# Altium footprint library 三电平变换器.PCBLIB: 98 footprints (part 4 of 7)
Each footprint in its own frame and in the unit in brackets; x right, y up, seen from the top. Pads: shape width x height; smd on the part's side, far side on the other; paste and mask are expansions set on the pad; w line width, h text height; cw(c..) or ccw(c..) is an arc to the next point about the centre after c.
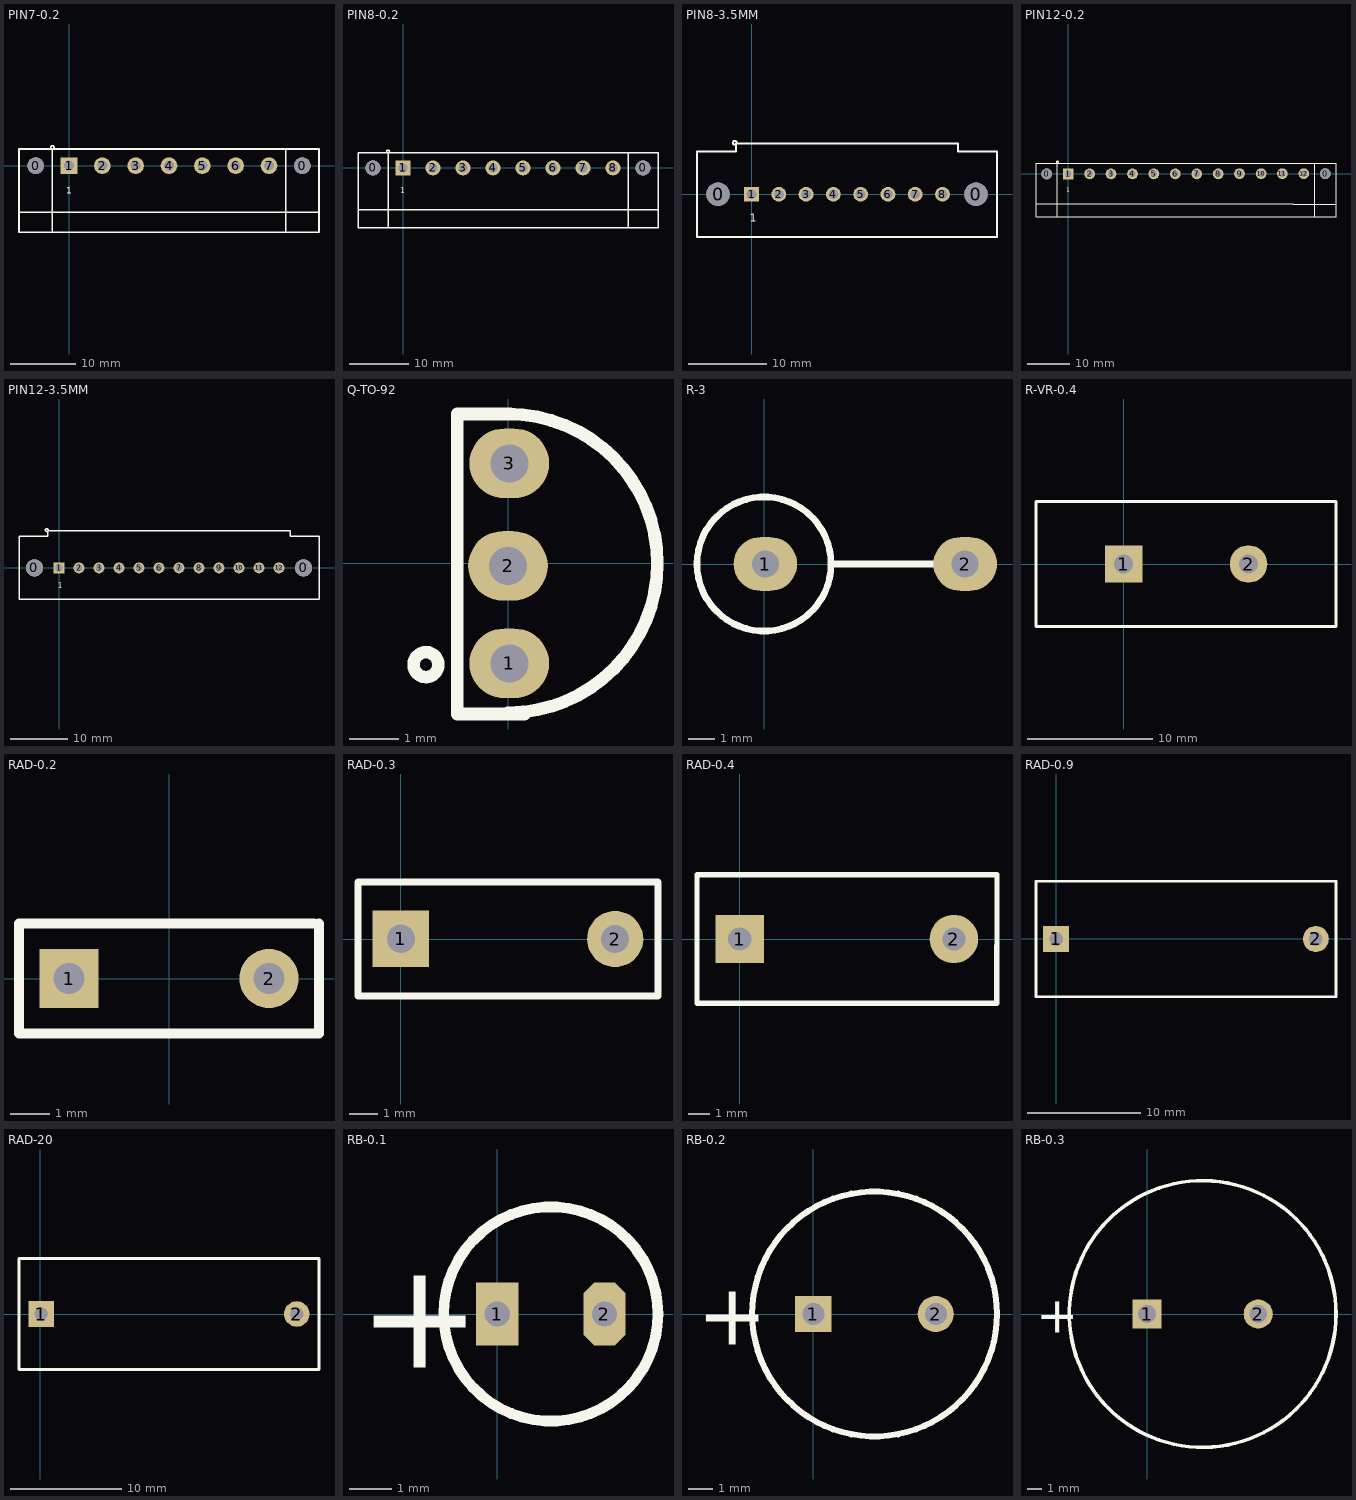
[diagram p3: the footprints below, top view; thin cyan lines are the x and y axes]

## PIN7-0.2 [mil] "7芯插座, 焊盘间距200mil"
pads (9):
  round 100 hole 100: 0(-200,0) 0(1400,0)
  rect 100x100 hole 60: 1(0,0)
  round 100 hole 60: 2(200,0) 3(400,0) 4(600,0) 5(800,0) 6(1000,0) 7(1200,0)
TopOverlay:
  circle w9.84: c-99.84,110 r9.84
  lines w10: -300,-280 1300,-280 1500,-280 ; -100,-400 -100,100 ; 1300,-400 -300,-400 -300,100 1300,100 ; 1300,-400 1300,100 ; 1300,-400 1500,-400 1500,100 1300,100
  text "1" at -17,-170 h40

## PIN8-0.2 [mil] "8芯插座, 焊盘间距200mil"
pads (10):
  round 100 hole 100: 0(-200,0) 0(1600,0)
  rect 100x100 hole 60: 1(0,0)
  round 100 hole 60: 2(200,0) 3(400,0) 4(600,0) 5(800,0) 6(1000,0) 7(1200,0) 8(1400,0)
TopOverlay:
  circle w9.84: c-99.84,110 r9.84
  lines w10: -300,-280 1300,-280 1700,-280 ; -100,-400 -100,100 ; 1500,-400 1500,100 ; -300,-400 1300,-400 1700,-400 1700,100 1300,100 -300,100 -300,-400
  text "1" at -17,-170 h40

## PIN8-3.5MM [mm] "8.芯插座, 焊盘间距3.5mm"
pads (10):
  round 3 hole 3: 0(-4.3,0) 0(28.8,0)
  rect 1.905x1.905 hole 1.27: 1(0,0)
  round 1.905 hole 1.27: 2(3.5,0) 3(7,0) 4(10.5,0) 5(14,0) 6(17.5,0) 7(21,0) 8(24.5,0)
TopOverlay:
  circle w0.25: c-2.155,6.604 r0.25
  lines w0.254: -7,-5.5 31.5,-5.5 31.5,5.5 26.5,5.5 26.5,6.5 -2,6.5 -2,5.5 -7,5.5 -7,-5.5
  text "1" at -0.254,-3.531 h1.02

## PIN12-0.2 [mil] "12芯插座, 焊盘间距200mil"
pads (14):
  round 100 hole 100: 0(-200,0) 0(2399,3)
  rect 100x100 hole 60: 1(0,0)
  round 100 hole 60: 2(200,0) 3(400,0) 4(600,0) 5(800,0) 6(1000,0) 7(1200,0) 8(1400,0) 9(1599,3) 10(1800,3) 11(1999,3) 12(2199,3)
TopOverlay:
  circle w9.84: c-99.84,110 r9.84
  lines w10: -300,-280 1300,-280 2100,-280 ; -100,-400 -100,100 ; 2099,-401 2499,-401 2499,99 2099,99 ; 2099,-281 2499,-281 ; 2100,-400 1300,-400 -300,-400 -300,100 1300,100 2100,100 ; 2299,-401 2299,99
  text "1" at -17,-170 h40

## PIN12-3.5MM [mm] "12芯插座, 焊盘间距3.5mm"
pads (14):
  round 3 hole 3: 0(-4.3,0) 0(42.8,0)
  rect 1.905x1.905 hole 1.27: 1(0,0)
  round 1.905 hole 1.27: 2(3.5,0) 3(7,0) 4(10.5,0) 5(14,0) 6(17.5,0) 7(21,0) 8(24.5,0) 9(28,0) 10(31.5,0) 11(35,0) 12(38.5,0)
TopOverlay:
  circle w0.25: c-2.155,6.604 r0.25
  lines w0.254: -7,-5.5 -7,5.5 -2,5.5 -2,6.5 40.5,6.5 40.5,5.5 45.5,5.5 45.5,-5.5 -7,-5.5
  text "1" at -0.254,-3.531 h1.02

## Q-TO-92 [mil]
pads (3):
  oval 63x55 hole 30: 1(0.9,-79) 2(-0.1,-2) 3(0.9,79)
TopOverlay:
  circle w9.84: c-64.92,-80 r9.84
  lines w10: -40.1,-119 -40.1,118 ; -38.1,-119 12.9,-119 ; -38.1,118 -33.1,118 1.9,118 ; -0.1,-118 ccw(c-0.1,0) -0.1,118

## R-3 [mil]
pads (2):
  oval 95x80 hole 40: 1(2,0) 2(300,0)
TopOverlay:
  circle w10: c0,0 r100
  lines w10: 103,0 260,0

## R-VR-0.4 [mm] "压敏电阻, 焊盘间距400mil"
pads (2):
  rect 3x3 hole 1.5: 1(0,0.008)
  round 3 / inner round 2.898 / far side round 3 hole 1.5: 2(10,0.008)
TopOverlay:
  lines w0.254: -7,-4.992 -7,5.008 -3.491,5.008 11.509,5.008 17,5.008 17,-4.992 11.509,-4.992 -3.491,-4.992 -7,-4.992

## RAD-0.2 [mm] "无极性焊盘间距200mil"
pads (2):
  rect 1.5x1.5 hole 0.8: 1(-2.54,0)
  round 1.5 hole 0.8: 2(2.54,0)
TopOverlay:
  lines w0.254: 3.683,1.397 -3.81,1.397 -3.81,-1.397 3.81,-1.397 3.81,1.397

## RAD-0.3 [mm] "无极性焊盘间距300mil"
pads (2):
  rect 2x2 hole 1 paste+0: 1(0,0.008)
  round 2 hole 1 unplated: 2(7.62,0)
TopOverlay:
  lines w0.254: 9.144,1.968 9.144,-2.032 -1.524,-2.032 -1.524,2.032 9.144,2.032

## RAD-0.4 [mm] "无极性焊盘间距400mil"
pads (2):
  rect 2.3x2.3 hole 1.1: 1(0,0)
  round 2.3 hole 1.1: 2(10.16,0)
TopOverlay:
  lines w0.254: 12.208,-3.048 12.192,-3.048 ; 12.192,-3.048 12.208,2.54 12.208,3.048 12.192,3.048 -2.032,3.048 -2.032,-3.048 12.192,-3.048

## RAD-0.9 [mil] "无极性焊盘间距900mil"
pads (2):
  rect 90x90 hole 48: 1(0,0)
  round 90 hole 48: 2(900,0)
TopOverlay:
  lines w10: -70,-200 970,-200 970,200 -70,200 -70,-200

## RAD-20 [mm]
pads (2):
  rect 2.3x2.3 hole 1.2: 1(0.066,0.009)
  round 2.3 hole 1.2: 2(23.066,0.009)
TopOverlay:
  lines w0.254: -1.934,-4.991 25.066,-4.991 25.066,5.009 -1.934,5.009 -1.934,-4.991

## RB-0.1 [mm] "有极性焊盘间距100mil"
pads (2):
  rect 1x1.5 hole 0.6: 1(0,0)
  oct 1x1.5 hole 0.6: 2(2.54,0)
TopOverlay:
  circle w0.254: c1.27,0 r2.54
  text "+" at -3.302,-1.27 h2.54

## RB-0.2 [mm] "有极性焊盘间距200mil"
pads (2):
  rect 1.5x1.5 hole 0.914: 1(0,0)
  round 1.5 hole 0.914: 2(5.08,0)
TopOverlay:
  circle w0.254: c2.54,0 r5.08
  text "+" at -4.826,-1.27 h2.54

## RB-0.3 [mm] "有极性焊盘间距300mil"
pads (2):
  rect 2x2 hole 1.219: 1(0,0)
  round 2 hole 1.219: 2(7.62,0)
TopOverlay:
  circle w0.254: c3.81,0 r9.144
  text "+" at -7.62,-1.27 h2.54